# EAGLE library part 74*73 (library 74)
Dual J-K FLIP FLOP, clear
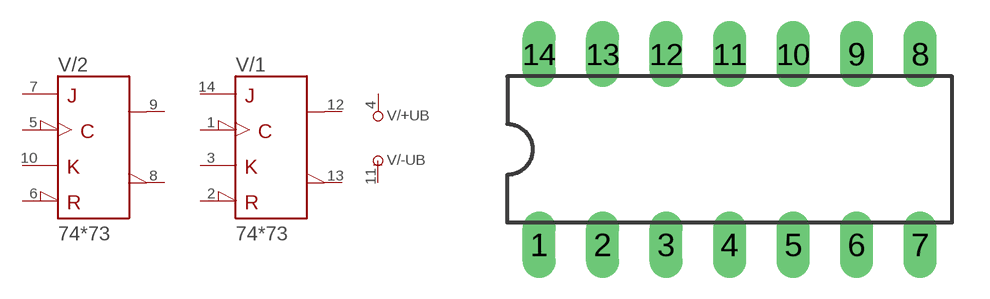
[diagram p22: symbol with the pads of DIL14; footprint DIL14]

Designator prefix V; gates /+UB=+UB /-UB=-UB /1=73 /2=73

## 7473N  [DIL14]
1  /1:CLK  in
2  /1:!CLR  in
3  /1:K  in
4  /+UB:+UB  pwr
5  /2:CLK  in
6  /2:!CLR  in
7  /2:J  in
8  /2:!Q  out
9  /2:Q  out
10  /2:K  in
11  /-UB:-UB  pwr
12  /1:Q  out
13  /1:!Q  out
14  /1:J  in

## Footprint DIL14 (pad centres in mm)
Dual In Line Package
drill 0.813 long: 1 -7.62,-3.81; 2 -5.08,-3.81; 3 -2.54,-3.81; 4 0,-3.81; 5 2.54,-3.81; 6 5.08,-3.81; 7 7.62,-3.81; 8 7.62,3.81; 9 5.08,3.81; 10 2.54,3.81; 11 0,3.81; 12 -2.54,3.81; 13 -5.08,3.81; 14 -7.62,3.81